# Altium footprint library SHT41-AD1B-R2.PcbLib: 3 footprints
Each footprint in its own frame and in the unit in brackets; x right, y up, seen from the top. Pads: shape width x height; smd on the part's side, far side on the other; paste and mask are expansions set on the pad; w line width, h text height; cw(c..) or ccw(c..) is an arc to the next point about the centre after c.
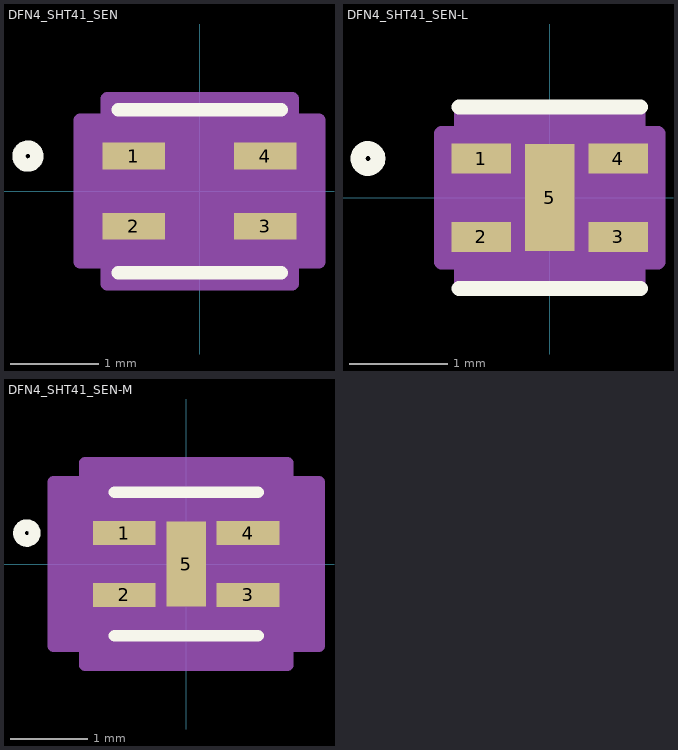
[diagram p0: the footprints below, top view; thin cyan lines are the x and y axes]

## DFN4_SHT41_SEN [mil]
pads (4):
  rect 28x12 smd paste+0 mask+0: 1(-29.5,15.75) 2(-29.5,-15.75) 3(29.5,-15.75) 4(29.5,15.75)
Top Overlay:
  circle w6: c-77,15.75 r4
  lines w6: -36.5,-36.5 36.5,-36.5 ; -36.5,36.5 36.5,36.5
Mechanical 13:
  circle w0: c-15.5,15.75 r3
  lines w0: -12,31.5 ccw(c0,31.5) 12,31.5
  lines w1: -31.5,-31.5 31.5,-31.5 31.5,31.5 -31.5,31.5 -31.5,-31.5
Mechanical 15:
  region: -41.5,-31.75 -53.5,-31.75 -53.5,31.75 -41.5,31.75 -41.5,41.5 41.5,41.5 41.5,31.75 53.5,31.75 53.5,-31.75 41.5,-31.75 41.5,-41.5 -41.5,-41.5
  lines w6: -53.5,-31.75 -53.5,31.75 -41.5,31.75 -41.5,41.5 41.5,41.5 41.5,31.75 53.5,31.75 53.5,-31.75 41.5,-31.75 41.5,-41.5 -41.5,-41.5 -41.5,-31.75 -53.5,-31.75
3D body "DFN4_SHT41_SEN.step": height 23.11, standoff 0, extent -31.5,-31.5 31.5,31.5
3D body "DFN4_SHT41_SEN.step": height 23.11, standoff 0, extent -31.5,-31.5 31.5,31.5

## DFN4_SHT41_SEN-L [mil]
pads (5):
  rect 24x12 smd paste+0 mask+0: 1(-27.5,15.75) 2(-27.5,-15.75) 3(27.5,-15.75) 4(27.5,15.75)
  rect 20x43 smd paste+0 mask+0: 5(0,0)
Top Overlay:
  circle w6: c-73,15.75 r4
  lines w6: -36.5,-36.5 36.5,-36.5 ; -36.5,36.5 36.5,36.5
Mechanical 13:
  circle w0: c-15.5,15.75 r3
  lines w0: -12,31.5 ccw(c0,31.5) 12,31.5
  lines w1: -31.5,-31.5 -31.5,31.5 31.5,31.5 31.5,-31.5 -31.5,-31.5
Mechanical 15:
  region: -35.5,-25.75 -43.5,-25.75 -43.5,25.75 -35.5,25.75 -35.5,35.5 35.5,35.5 35.5,25.75 43.5,25.75 43.5,-25.75 35.5,-25.75 35.5,-35.5 -35.5,-35.5
  lines w6: -43.5,-25.75 -35.5,-25.75 -35.5,-35.5 35.5,-35.5 35.5,-25.75 43.5,-25.75 43.5,25.75 35.5,25.75 35.5,35.5 -35.5,35.5 -35.5,25.75 -43.5,25.75 -43.5,-25.75
3D body "DFN4_SHT41_SEN.step": height 23.11, standoff 0, extent -31.5,-31.5 31.5,31.5

## DFN4_SHT41_SEN-M [mil]
pads (5):
  rect 32x12 smd paste+0 mask+0: 1(-31.5,15.75) 2(-31.5,-15.75) 3(31.5,-15.75) 4(31.5,15.75)
  rect 20x43 smd paste+0 mask+0: 5(0,0)
Top Overlay:
  circle w6: c-81,15.75 r4
  lines w6: -36.5,-36.5 36.5,-36.5 ; -36.5,36.5 36.5,36.5
Mechanical 13:
  circle w0: c-15.5,15.75 r3
  lines w0: -12,31.5 ccw(c0,31.5) 12,31.5
  lines w1: -31.5,-31.5 -31.5,31.5 31.5,31.5 31.5,-31.5 -31.5,-31.5
Mechanical 15:
  region: -51.5,-41.75 -67.5,-41.75 -67.5,41.75 -51.5,41.75 -51.5,51.5 51.5,51.5 51.5,41.75 67.5,41.75 67.5,-41.75 51.5,-41.75 51.5,-51.5 -51.5,-51.5
  lines w6: -67.5,-41.75 -51.5,-41.75 -51.5,-51.5 51.5,-51.5 51.5,-41.75 67.5,-41.75 67.5,41.75 51.5,41.75 51.5,51.5 -51.5,51.5 -51.5,41.75 -67.5,41.75 -67.5,-41.75
3D body "DFN4_SHT41_SEN.step": height 23.11, standoff 0, extent -31.5,-31.5 31.5,31.5